# EAGLE library part 692622030100 (library 629004113921_Eagle_WR-USB_rev20c)
WR-COM Micro USB 3.0 Type B Horizontal SMT Kind Properties Durability:10 000 Mating cycles Quality Class:10 000 Mating cycles Connector Type:Micro USB Gender:Receptacle Type:Horizontal General Information Operating Temperature:-20up to +85 °C Compliance:RoHS Electrical Properties IR 1:1.8A Working Voltage:30V (AC) Withstanding Voltage:100V (AC) Contact Resistance:50 mΩ Material Properties Insulator Material:LCP Insulator Flammability Rating:UL94 V-0 Color:Blue Cover Material:Steel Cover Plating:Matte Tin Contact Material:Phosphor Bronze Contact Plating:Matte Tin over Nickel Contact Type:Stamped Shielding Material:Steel Shielding Plating:Matte Tin <https://www.we-online.com/catalog/media/o33033v209%20Family_WR-COM_692622030100.jpg> Details see: https://www.we-online.com/catalog/en/COM_MICRO_3_0_SMT_TYPE_B_HORIZONTAL/ Updated by Yingchun, Shan 2020-01-17 2020 (C) Würth Elektronik
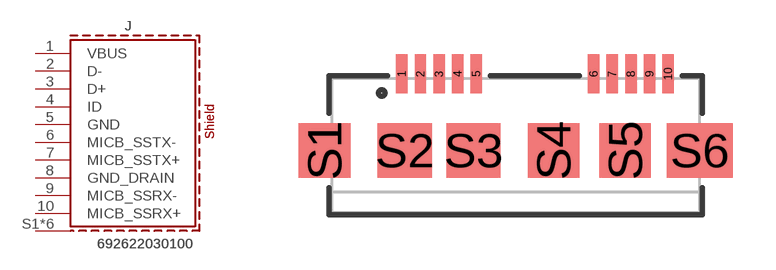
[diagram p1: symbol with the pads of 692622030100; footprint 692622030100]

Designator prefix J

## 692622030100 (APPLICATION: Micro USB 3.0; DATASHEET-URL: https://www.we-online.com/catalog/datasheet/692622030100.pdf; GERDER: Receptacle; INTERFACE-TYPE: Type B; IR1: 1.8A; MOUNT: SMT; PACKAGING: Tape and Reel; PART-NUMBER: 692622030100; PINS: 10; TYPE: Horizontal; VALUE: 692622030100; WORKING-VOLTAGE: 30V(AC))  [692622030100]
1  VBUS
2  D-
3  D+
4  ID
5  GND
6  MICB_SSTX-
7  MICB_SSTX+
8  GND_DRAIN
9  MICB_SSRX-
10  MICB_SSRX+
S1  SHIELD
S2  SHIELD
S3  SHIELD
S4  SHIELD
S5  SHIELD
S6  SHIELD

## Footprint 692622030100 (pad centres in mm)
WR-COM Micro USB 3.0 Type B Horizontal SMT
smd 0.4 x 1.35: 1 -1.3,2.675; 2 -0.65,2.675; 3 0,2.675; 4 0.65,2.675; 5 1.3,2.675; 6 5.4,2.675; 7 6.05,2.675; 8 6.7,2.675; 9 7.35,2.675; 10 8,2.675
smd 1.8 x 1.9: S1 -4,0; S4 4,0; S5 6.5,0
smd 1.9 x 1.9: S2 -1.2,0; S3 1.2,0
smd 2.3 x 1.9: S6 9.1,0